# EAGLE library part UCC27425SMT (library utesla)
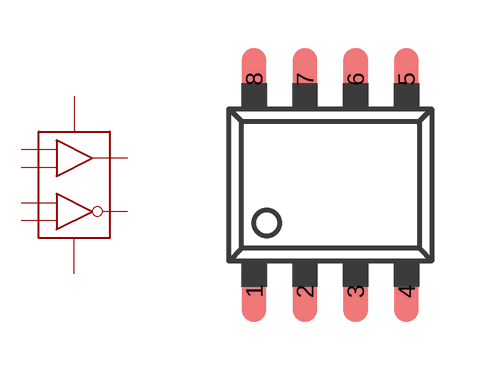
[diagram p4: symbol with the pads of POWERPAD; footprint POWERPAD]

Designator prefix -

## UCC27425SMT  [POWERPAD]
1  ENBA
2  INA
3  GND
4  INB
5  OUTB
6  VCC
7  OUTA
8  ENBB

## Footprint POWERPAD (pad centres in mm)
smd 0.61 x 1.549: 1 -1.905,-2.654; 2 -0.635,-2.654; 3 0.635,-2.654; 4 1.905,-2.654; 5 1.905,2.654; 6 0.635,2.654; 7 -0.635,2.654; 8 -1.905,2.654